# Altium footprint library multipowerso-30.pcblib: 1 footprints
Each footprint in its own frame and in the unit in brackets; x right, y up, seen from the top. Pads: shape width x height; smd on the part's side, far side on the other; paste and mask are expansions set on the pad; w line width, h text height; cw(c..) or ccw(c..) is an arc to the next point about the centre after c.
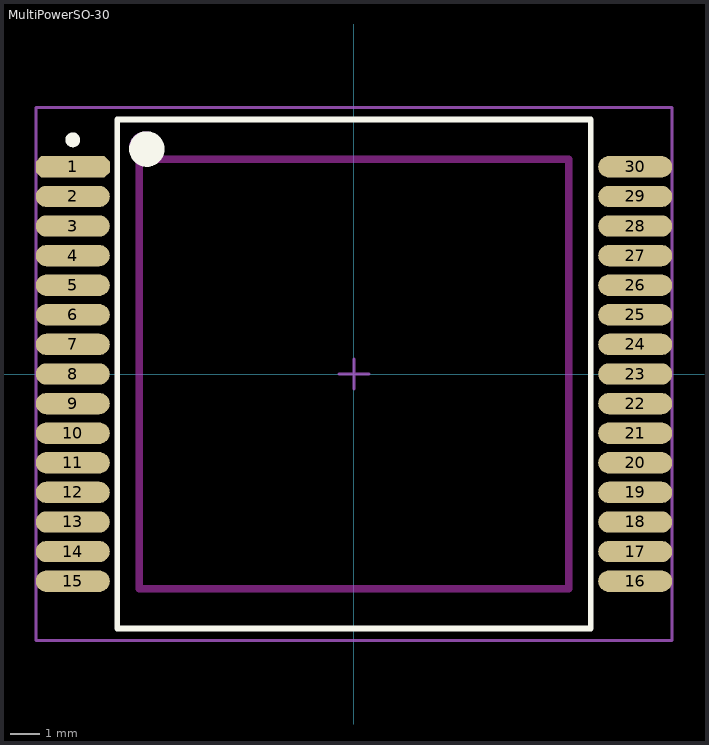
[diagram p0: the footprint, top view; thin cyan lines are the x and y axes]

## MultiPowerSO-30 [mm] "MultiPowerSO-30, 30-Leads, Body 17.2x15.0mm (max), Pitch 1.00mm, IPC Medium Density"
height 2.35
pads (30):
  oct 2.5x0.72 smd: 1(-9.5,7)
  oval 2.5x0.72 smd: 2(-9.5,6) 3(-9.5,5) 4(-9.5,4) 5(-9.5,3) 6(-9.5,2) 7(-9.5,1) 8(-9.5,0) 9(-9.5,-1) 10(-9.5,-2) 11(-9.5,-3) 12(-9.5,-4) 13(-9.5,-5) 14(-9.5,-6) 15(-9.5,-7) 16(9.5,-7) 17(9.5,-6) 18(9.5,-5) 19(9.5,-4) 20(9.5,-3) 21(9.5,-2) 22(9.5,-1) 23(9.5,0) 24(9.5,1) 25(9.5,2) 26(9.5,3) 27(9.5,4) 28(9.5,5) 29(9.5,6) 30(9.5,7)
Top Overlay:
  circle w0.6: c-7,7.6 r0.3
  circle w0.25: c-9.5,7.91 r0.125
  lines w0.2: -8,-8.6 8,-8.6 8,8.6 -8,8.6 -8,-8.6
Keep-Out Layer:
  lines w0.254: -7.25,-7.25 7.25,-7.25 7.25,7.25 -7.25,7.25 -7.25,-7.25
  text "CUT" at -2,-0.5 h1.52
Mechanical 13:
  circle w0.1: c-7.05,7.65 r0.5
  lines w0.1: -8,-8.6 8,-8.6 8,8.6 -8,8.6 -8,-8.6
Mechanical 15:
  lines w0.1: -0.5,0 0.5,0 ; 0,-0.5 0,0.5 ; -10.75,-9 10.75,-9 10.75,9 -10.75,9 -10.75,-9
3D body: height 2.35, standoff 0.23, extent -8,-8.6 8,8.6